# Altium schematic symbol library nsv1c201mz4t1g.SchLib: 1 symbol
Pins are listed as number, name and electrical type; pins without a type are passive.

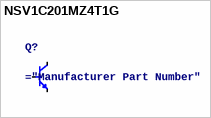
[diagram p0: symbol NSV1C201MZ4T1G]

## NSV1C201MZ4T1G
designator Q?
Small Signal Bipolar Transistor, 2A I(C), 100V V(BR)CEO, 1-Element, NPN, Silicon, TO-261AA
pins: 1 B, 2 C, 3 E, 4 C